# Altium schematic symbol library Thermistor_Expansion_Board.SCHLIB: 9 symbols
Pins are listed as number, name and electrical type; pins without a type are passive.

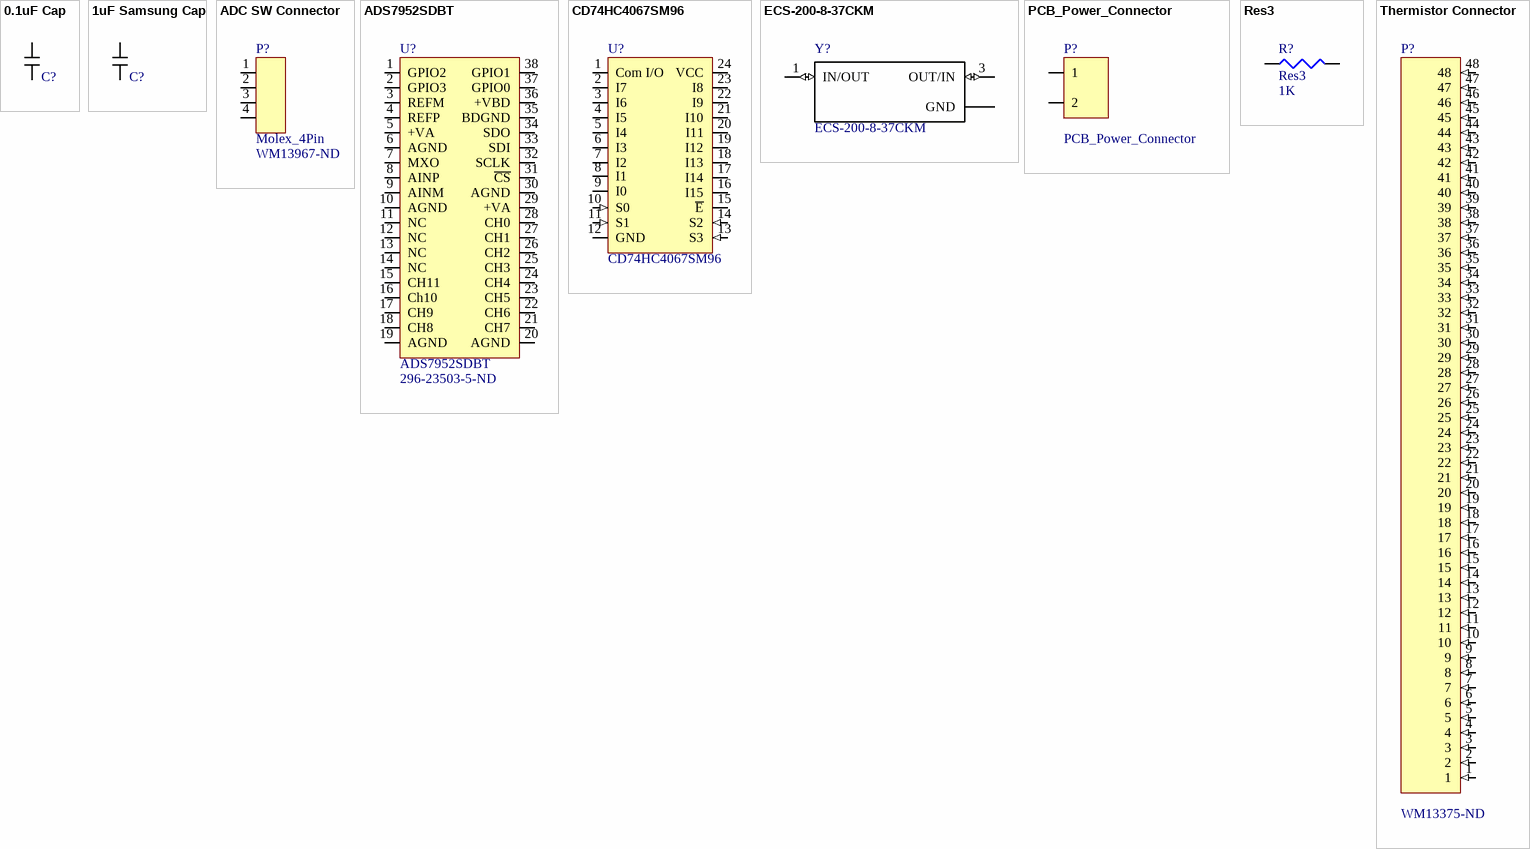
[diagram p0: symbols 0.1uF Cap to Thermistor Connector]

## 0.1uF Cap
designator C?  (value not drawn)
C0603C101K8GAC7867 Kemet Capacitor; Supplier 1: Digi-Key; Supplier Part Number 1: 399-14477-1-ND
footprint 0.1uF_Kemet (Chip Capacitor, 2-Leads, Body 1.60x0.80mm, IPC Low Density)
pins: 1, 2

## 1uF Samsung Cap
designator C?  (value not drawn)
Supplier 1: Digi-Key; Supplier Part Number 1: 1276-1946-1-ND
footprint 1uf_Samsung (Chip Capacitor, 2-Leads, Body 1.60x0.80mm, IPC Low Density)
pins: 1, 2

## ADC SW Connector
designator P?, comment Molex_4Pin  Supplier Part Number 1: WM13967-ND
Supplier 1: Digi-Key
footprint MUX_SEL_CON
pins: 1, 2, 3, 4

## ADS7952SDBT
designator U?  Supplier Part Number 1: 296-23503-5-ND
Supplier 1: Digi-Key
footprint TSSOP50P640X120-38N (TSSOP, 38-Leads, Body 9.70x4.40mm, Pitch 0.50mm, IPC Medium Density)
pins: 1 GPIO2, 2 GPIO3, 3 REFM, 4 REFP, 5 +VA, 6 AGND, 7 MXO, 8 AINP, 9 AINM, 10 AGND, 11 NC, 12 NC, 13 NC, 14 NC, 15 CH11, 16 Ch10, 17 CH9, 18 CH8, 19 AGND, 20 AGND, 21 CH7, 22 CH6, 23 CH5, 24 CH4, 25 CH3, 26 CH2, 27 CH1, 28 CH0, 29 +VA, 30 AGND, 31 ~{CS}, 32 SCLK, 33 SDI, 34 SDO, 35 BDGND, 36 +VBD, 37 GPIO0, 38 GPIO1

## CD74HC4067SM96
designator U?
Supplier Part Number 1: 05B6161; Supplier 1: Newark
footprint SOIC-24_MUX (SOIC, 24-Leads, Body 15.40x7.50mm, Pitch 1.27mm, IPC Medium Density)
pins: 1 Com I/O, 2 I7, 3 I6, 4 I5, 5 I4, 6 I3, 7 I2, 8 I1, 9 I0, 10 S0 (in), 11 S1 (in), 12 GND, 13 S3 (in), 14 S2 (in), 15 ~{E}, 16 I15, 17 I14, 18 I13, 19 I12, 20 I11, 21 I10, 22 I9, 23 I8, 24 VCC

## ECS-200-8-37CKM
designator Y?
Crystal 20MHz 8pF 4-Pin CSMD; MF: ECS Inc.; Digi-Key_Part_Number: XC1542CT-ND; Package: SMD-4 ECS International; Digi-Key_Purchase_URL: https://www.digikey.ca/product-detail/en/ecs-inc/ECS-200-8-37CKM/XC1542CT-ND/1693711?utm_source=snapeda&utm_medium=aggregator&utm_campaign=symbol; SnapEDA_Link: https://www.snapeda.com/parts/ECS-200-8-37CKM/ECS%20Inc./view-part/?ref=snap; MP: ECS-200-8-37CKM; Value: *
footprint XTAL_ECS-200-8-37CKM
pins: 1 IN/OUT (io), 2 GND (power), 3 OUT/IN (io), 4 GND (power)

## PCB_Power_Connector
designator P?
footprint Power_Connector
pins: 1 "Board Power", 2 "Board Power"

## Res3
designator R?  value 1K
Resistor; Published: 8-Jun-2000; LatestRevisionDate: 29-May-2009; LatestRevisionNote: IPC-7351 Footprint Added.; PackageReference: J1-0603; Publisher: Altium Limited; PackageDescription: Chip Resistor
footprint J1-0603 (Chip Resistor, Body 1.6x0.8mm, IPC High Density)
footprint 14-1210 (Chip Resistor, Body 3.2x2.5mm, IPC High Density)
footprint 12Z-2010 (Chip Resistor, Body 5.0x2.5mm, IPC High Density)
footprint RESC6332 (Chip Resistor, Body 6.3x3.2mm, IPC High Density)
simulation model RESISTOR (Resistor)
signal-integrity model Res
pins: 1, 2

## Thermistor Connector
designator P?  Supplier Part Number 1: WM13375-ND  (hidden comment: Thermistor Connector)
CONN CMC HEADER 48POS R/A BROWN; Supplier 1: Digi-Key
footprint Molex CMC 36638 (48 Pin Connector)
pins: 1 (in), 2 (in), 3 (in), 4 (in), 5 (in), 6 (in), 7 (in), 8 (in), 9 (in), 10 (in), 11 (in), 12 (in), 13 (in), 14 (in), 15 (in), 16 (in), 17 (in), 18 (in), 19 (in), 20 (in), 21 (in), 22 (in), 23 (in), 24 (in), 25 (in), 26 (in), 27 (in), 28 (in), 29 (in), 30 (in), 31 (in), 32 (in), 33 (in), 34 (in), 35 (in), 36 (in), 37 (in), 38 (in), 39 (in), 40 (in), 41 (in), 42 (in), 43 (in), 44 (in), 45 (in), 46 (in), 47 (in), 48 (in)